# Altium footprint library T38_V.PcbLib: 1 footprints
Each footprint in its own frame and in the unit in brackets; x right, y up, seen from the top. Pads: shape width x height; smd on the part's side, far side on the other; paste and mask are expansions set on the pad; w line width, h text height; cw(c..) or ccw(c..) is an arc to the next point about the centre after c.
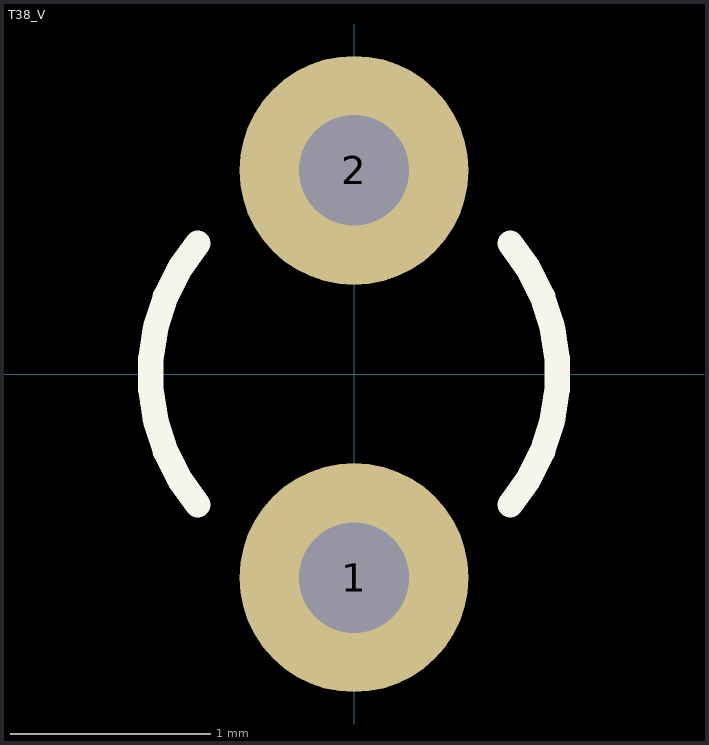
[diagram p0: the footprint, top view; thin cyan lines are the x and y axes]

## T38_V [mil]
pads (2):
  round 45 hole 21.65: 1(0,-40) 2(0,40)
Top Overlay:
  lines w5: -30.65,-25.72 cw(c0,0) -30.65,25.72 ; 30.65,-25.72 ccw(c0,0) 30.65,25.72
3D body: height 296.46, standoff -30.31, extent -37.77,-45 40.97,45.55